# Altium footprint library prosthesis.PcbLib: 35 footprints (part 2 of 3)
Each footprint in its own frame and in the unit in brackets; x right, y up, seen from the top. Pads: shape width x height; smd on the part's side, far side on the other; paste and mask are expansions set on the pad; w line width, h text height; cw(c..) or ccw(c..) is an arc to the next point about the centre after c.
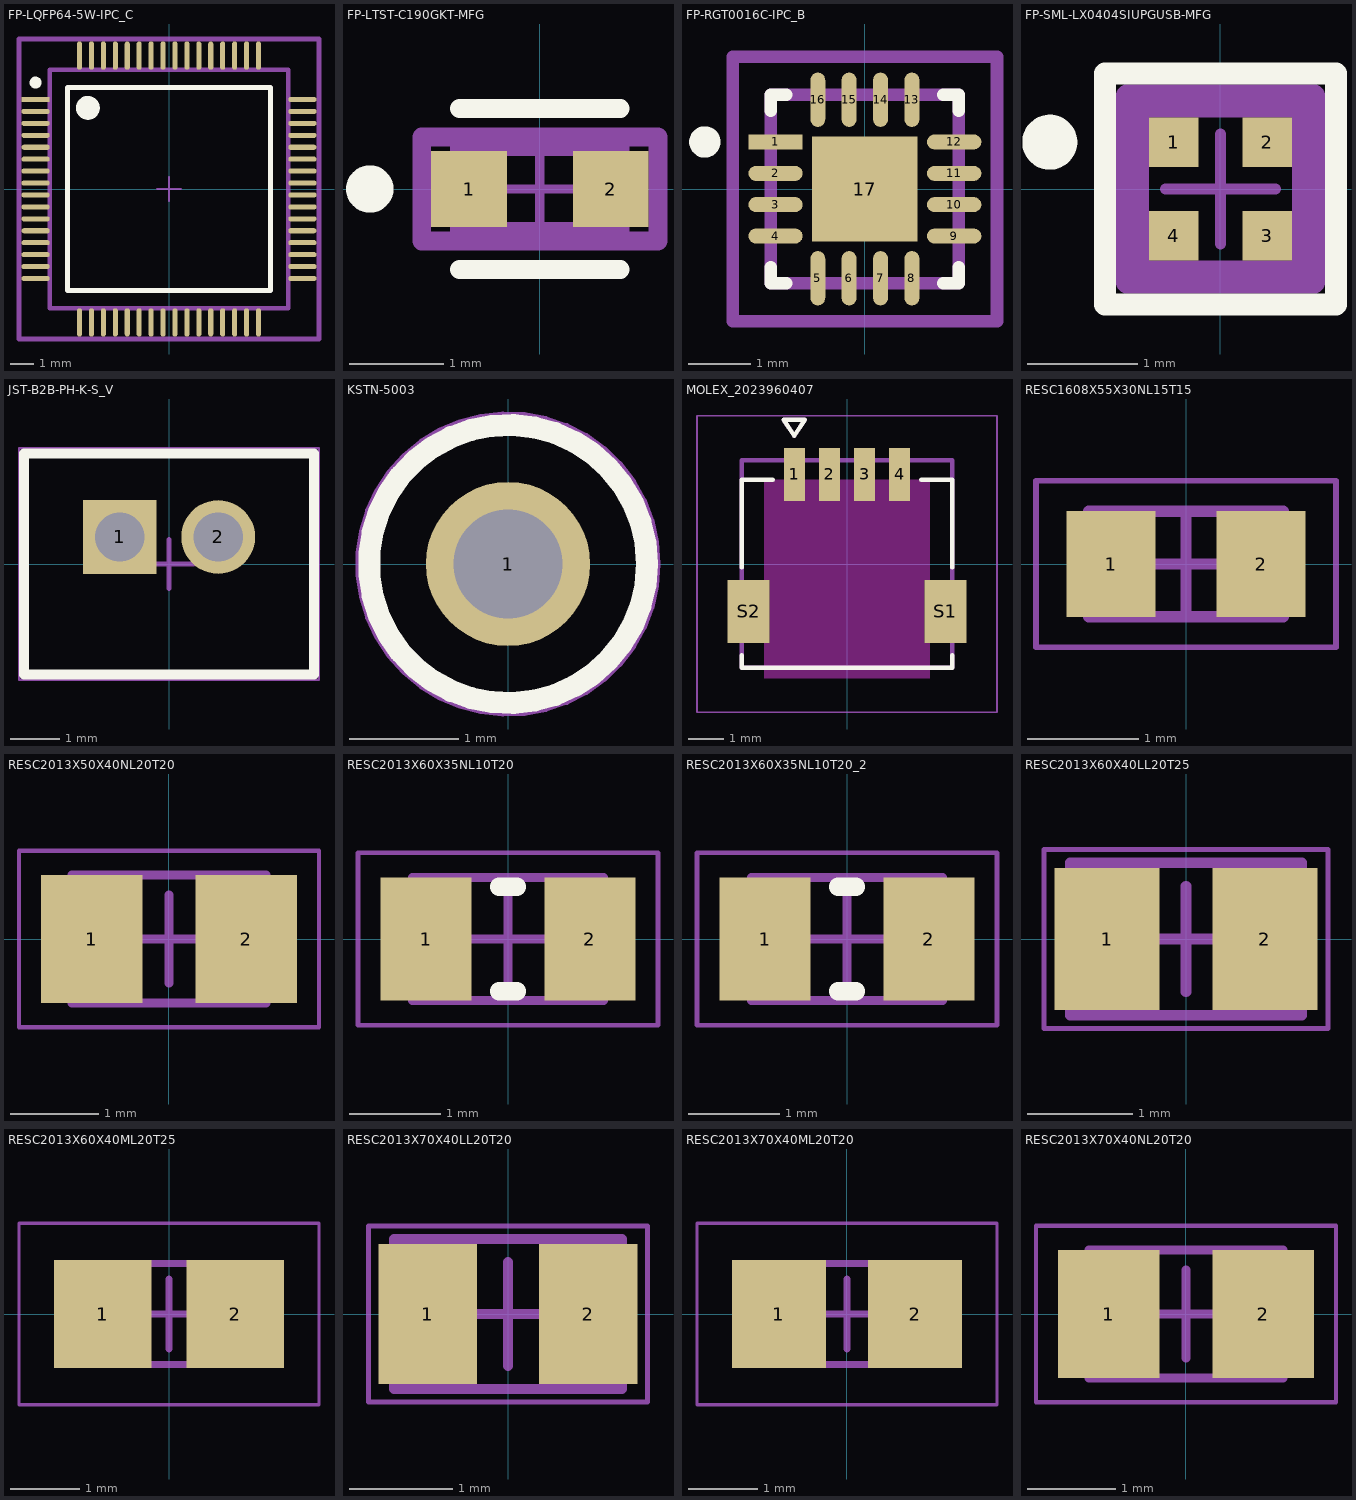
[diagram p1: the footprints below, top view; thin cyan lines are the x and y axes]

## FP-LQFP64-5W-IPC_C [mm]
pads (64):
  rect 1.188x0.212 smd paste+0 mask+0: 1(-5.591,3.75)
  rrect100% 1.188x0.212 smd paste+0 mask+0: 2(-5.591,3.25) 3(-5.591,2.75) 4(-5.591,2.25) 5(-5.591,1.75) 6(-5.591,1.25) 7(-5.591,0.75) 8(-5.591,0.25) 9(-5.591,-0.25) 10(-5.591,-0.75) 11(-5.591,-1.25) 12(-5.591,-1.75) 13(-5.591,-2.25) 14(-5.591,-2.75) 15(-5.591,-3.25) 16(-5.591,-3.75) 33(5.591,-3.75) 34(5.591,-3.25) 35(5.591,-2.75) 36(5.591,-2.25) 37(5.591,-1.75) 38(5.591,-1.25) 39(5.591,-0.75) 40(5.591,-0.25) 41(5.591,0.25) 42(5.591,0.75) 43(5.591,1.25) 44(5.591,1.75) 45(5.591,2.25) 46(5.591,2.75) 47(5.591,3.25) 48(5.591,3.75)
  rrect100% 0.212x1.188 smd paste+0 mask+0: 17(-3.75,-5.591) 18(-3.25,-5.591) 19(-2.75,-5.591) 20(-2.25,-5.591) 21(-1.75,-5.591) 22(-1.25,-5.591) 23(-0.75,-5.591) 24(-0.25,-5.591) 25(0.25,-5.591) 26(0.75,-5.591) 27(1.25,-5.591) 28(1.75,-5.591) 29(2.25,-5.591) 30(2.75,-5.591) 31(3.25,-5.591) 32(3.75,-5.591) 49(3.75,5.591) 50(3.25,5.591) 51(2.75,5.591) 52(2.25,5.591) 53(1.75,5.591) 54(1.25,5.591) 55(0.75,5.591) 56(0.25,5.591) 57(-0.25,5.591) 58(-0.75,5.591) 59(-1.25,5.591) 60(-1.75,5.591) 61(-2.25,5.591) 62(-2.75,5.591) 63(-3.25,5.591) 64(-3.75,5.591)
Top Overlay:
  circle w0.25: c-5.591,4.46 r0.125
  circle w0.5: c-3.4,3.4 r0.25
  lines w0.2: -4.25,-4.25 4.25,-4.25 4.25,4.25 -4.25,4.25 -4.25,-4.25
Top 3D Body:
  lines w0.2: -5,-5 5,-5 5,5 -5,5 -5,-5
Top Component Center:
  lines w0.1: -0.5,0 0.5,0 ; 0,-0.5 0,0.5
Top Assembly:
  lines w0.2: -6.285,-6.285 6.285,-6.285 6.285,6.285 -6.285,6.285 -6.285,-6.285
  text ".Designator" at 0,-0.001 h1
Top Courtyard:
  lines w0.2: -6.285,-6.285 6.285,-6.285 6.285,6.285 -6.285,6.285 -6.285,-6.285
3D body "IC_STMicroelectronics_STM32L431RCT6_eec.STEP": height 1.6, standoff 0, extent -5.999,-6.001 6.001,5.999

## FP-LTST-C190GKT-MFG [mm]
pads (2):
  rect 0.8x0.8 smd paste+0 mask+0: 1(-0.75,0) 2(0.75,0)
Top Overlay:
  circle w0.25: c-1.8,0 r0.125
  lines w0.2: -0.85,-0.85 0.85,-0.85 ; -0.85,0.85 0.85,0.85
Top 3D Body:
  lines w0.2: -0.85,-0.45 -0.85,0.45 0.85,0.45 0.85,-0.45 -0.85,-0.45
Top Component Center:
  lines w0.1: -0.5,0 0.5,0 ; 0,-0.5 0,0.5
Top Assembly:
  lines w0.2: -1.25,-0.55 -1.25,0.55 1.25,0.55 1.25,-0.55 -1.25,-0.55
  text ".Designator" at 0,-0.001 h1
Top Courtyard:
  lines w0.2: -1.25,-0.55 -1.25,0.55 1.25,0.55 1.25,-0.55 -1.25,-0.55
3D body "Diode_Lite-On_LTST-C190GKT_eec.STEP": height 0.25, standoff 0, extent -1.25,-0.55 1.25,0.55

## FP-RGT0016C-IPC_B [mm]
pads (17):
  rect 0.866x0.239 smd paste+0 mask+0: 1(-1.423,0.75)
  rrect100% 0.866x0.239 smd paste+0 mask+0: 2(-1.423,0.25) 3(-1.423,-0.25) 4(-1.423,-0.75) 9(1.423,-0.75) 10(1.423,-0.25) 11(1.423,0.25) 12(1.423,0.75)
  rrect100% 0.239x0.866 smd paste+0 mask+0: 5(-0.75,-1.423) 6(-0.25,-1.423) 7(0.25,-1.423) 8(0.75,-1.423) 13(0.75,1.423) 14(0.25,1.423) 15(-0.25,1.423) 16(-0.75,1.423)
  rect 1.68x1.68 smd paste-1000 mask+0: 17(0,0)
Top Overlay:
  circle w0.25: c-2.55,0.75 r0.125
  lines w0.2: -1.5,-1.25 -1.5,-1.5 -1.25,-1.5 ; -1.5,1.25 -1.5,1.5 -1.25,1.5 ; 1.25,-1.5 1.5,-1.5 1.5,-1.25 ; 1.25,1.5 1.5,1.5 1.5,1.25
Top Paste:
  rectangle: -0.531,-0.531 0.531,0.531
Top 3D Body:
  lines w0.2: -1.5,-1.5 -1.5,1.5 1.5,1.5 1.5,-1.5 -1.5,-1.5
Top Component Center:
  lines w0.1: -0.5,0 0.5,0 ; 0,-0.5 0,0.5
Top Assembly:
  lines w0.2: -2.106,-2.106 -2.106,2.106 2.106,2.106 2.106,-2.106 -2.106,-2.106
  text ".Designator" at 0,0.188 h1
Top Courtyard:
  lines w0.2: -2.106,-2.106 -2.106,2.106 2.106,2.106 2.106,-2.106 -2.106,-2.106
3D body "IC_Texas_Instruments_DRV8876RGTR_eec.STEP": height 0.25, standoff 0, extent -2.106,-2.106 2.106,2.106

## FP-SML-LX0404SIUPGUSB-MFG [mm]
pads (4):
  rect 0.45x0.45 smd paste+0 mask+0: 1(-0.425,0.425) 2(0.425,0.425) 3(0.425,-0.425) 4(-0.425,-0.425)
Top Overlay:
  circle w0.25: c-1.55,0.425 r0.125
  lines w0.2: -1.05,-1.05 1.05,-1.05 1.05,1.05 -1.05,1.05 -1.05,-1.05
Top 3D Body:
  lines w0.2: -0.75,-0.75 0.75,-0.75 0.75,0.75 -0.75,0.75 -0.75,-0.75
Top Component Center:
  lines w0.1: -0.5,0 0.5,0 ; 0,-0.5 0,0.5
Top Assembly:
  lines w0.2: -0.85,-0.85 0.85,-0.85 0.85,0.85 -0.85,0.85 -0.85,-0.85
  text ".Designator" at 0,0.188 h1
Top Courtyard:
  lines w0.2: -0.85,-0.85 0.85,-0.85 0.85,0.85 -0.85,0.85 -0.85,-0.85
3D body "Diode_Lumex_SML-LX0404SIUPGUSB_eec.STEP": height 0.25, standoff 0, extent -0.85,-0.85 0.85,0.85

## JST-B2B-PH-K-S_V [mm]
pads (2):
  rect 1.5x1.5 hole 1: 1(-1,0.55)
  round 1.5 hole 1: 2(1,0.55)
Top Overlay:
  lines w0.2: -2.95,-2.25 2.95,-2.25 2.95,2.25 -2.95,2.25 -2.95,-2.25
Top Assembly:
  lines w0.1: -2.95,-2.25 -2.95,2.25 2.95,2.25 2.95,-2.25 -2.95,-2.25
Top Courtyard:
  lines w0.05: -3.05,-2.35 -3.05,2.35 3.05,2.35 3.05,-2.35 -3.05,-2.35
  lines w0.1: -0.5,0 0.5,0 ; 0,-0.5 0,0.5
3D body: height 6, standoff 0, extent -2.949,-2.249 2.949,2.249
3D body: height 0, standoff -3.4, extent -1.249,0.301 -0.751,0.799
3D body: height 0, standoff -3.4, extent 0.75,0.301 1.249,0.8

## KSTN-5003 [mm]
pads (1):
  round 1.5 hole 1: 1(0,0)
Top Overlay:
  circle w0.2: c0,0 r1.27
Top Assembly:
  circle w0.1: c0,0 r1.27
Top Courtyard:
  circle w0.05: c0,0 r1.37
  lines w0.1: -0.5,0 0.5,0 ; 0,-0.5 0,0.5
3D body "User Library-Test Point Keystone - 5003 ORANGE.STEP": height 4.57, standoff -3.05, extent -1.27,-1.27 1.27,1.27

## MOLEX_2023960407 [mm]
pads (6):
  rect 0.6x1.5 smd mask+0.076: 1(-1.5,2.55) 2(-0.5,2.55) 3(0.5,2.55) 4(1.5,2.55)
  rect 1.2x1.8 smd mask+0.076: S1(2.8,-1.35) S2(-2.8,-1.35)
Top Overlay:
  lines w0.127: -3,-2.6 -3,-2.95 3,-2.95 3,-2.6 ; -3,-0.1 -3,2.4 -2.12,2.4 ; 2.12,2.4 3,2.4 3,-0.1 ; -1.8,4.1 -1.2,4.1 -1.5,3.65 -1.8,4.1
Keep-Out Layer:
  region: 2.35,-0.445 2.195,-0.445 2.195,-2.255 2.35,-2.255 2.35,-3.25 -2.35,-3.25 -2.35,-2.255 -2.195,-2.255 -2.195,-0.445 -2.35,-0.445 -2.35,2.4 -1.805,2.4 -1.805,1.795 -1.195,1.795 -1.195,2.4 -0.805,2.4 -0.805,1.795 -0.195,1.795 -0.195,2.4 0.195,2.4 0.195,1.795 0.805,1.795 0.805,2.4 1.195,2.4 1.195,1.795 1.805,1.795 1.805,2.4 2.35,2.4
Top Assembly:
  lines w0.127: -3,-2.95 3,-2.95 3,2.95 -3,2.95 -3,-2.95 ; -1.8,4.1 -1.2,4.1 -1.5,3.65 -1.8,4.1
Top Courtyard:
  lines w0.05: -4.27,-4.22 -4.27,4.22 4.27,4.22 4.27,-4.22 -4.27,-4.22

## RESC1608X55X30NL15T15 [mm]
pads (2):
  rect 0.8x0.95 smd: 1(-0.675,0) 2(0.675,0)
Top Assembly:
  lines w0.1: -0.875,-0.475 -0.875,0.475 0.875,0.475 0.875,-0.475 -0.875,-0.475
Top Courtyard:
  lines w0.05: -1.35,-0.75 -1.35,0.75 1.35,0.75 1.35,-0.75 -1.35,-0.75
  lines w0.1: -0.475,0 0.475,0 ; 0,-0.475 0,0.475
3D body: height 0.55, standoff 0, extent -0.575,-0.475 0.575,0.475
3D body: height 0.55, standoff 0, extent -0.875,-0.475 -0.575,0.475
3D body: height 0.55, standoff 0, extent 0.575,-0.475 0.875,0.475

## RESC2013X50X40NL20T20 [mm]
pads (2):
  rect 1.15x1.45 smd: 1(-0.875,0) 2(0.875,0)
Top Assembly:
  lines w0.1: -1.1,-0.725 -1.1,0.725 1.1,0.725 1.1,-0.725 -1.1,-0.725
Top Courtyard:
  lines w0.05: -1.7,-1 -1.7,1 1.7,1 1.7,-1 -1.7,-1
  lines w0.1: -0.5,0 0.5,0 ; 0,-0.5 0,0.5
3D body: height 0.5, standoff 0, extent -0.7,-0.725 0.7,0.725
3D body: height 0.5, standoff 0, extent -1.1,-0.725 -0.7,0.725
3D body: height 0.5, standoff 0, extent 0.7,-0.725 1.1,0.725

## RESC2013X60X35NL10T20 [mm]
pads (2):
  rect 1x1.35 smd: 1(-0.9,0) 2(0.9,0)
Top Overlay:
  lines w0.2: -0.1,-0.575 0.1,-0.575 ; -0.1,0.575 0.1,0.575
Top Assembly:
  lines w0.1: -1.05,-0.675 -1.05,0.675 1.05,0.675 1.05,-0.675 -1.05,-0.675
Top Courtyard:
  lines w0.05: -1.65,-0.95 -1.65,0.95 1.65,0.95 1.65,-0.95 -1.65,-0.95
  lines w0.1: -0.5,0 0.5,0 ; 0,-0.5 0,0.5
3D body "RESC2012X06N.step": height 0.6, standoff 0, extent -1.05,-0.675 1.05,0.675

## RESC2013X60X35NL10T20_2 [mm]
pads (2):
  rect 1x1.35 smd: 1(-0.9,0) 2(0.9,0)
Top Overlay:
  lines w0.2: -0.1,-0.575 0.1,-0.575 ; -0.1,0.575 0.1,0.575
Top Assembly:
  lines w0.1: -1.05,-0.675 -1.05,0.675 1.05,0.675 1.05,-0.675 -1.05,-0.675
Top Courtyard:
  lines w0.05: -1.65,-0.95 -1.65,0.95 1.65,0.95 1.65,-0.95 -1.65,-0.95
  lines w0.1: -0.5,0 0.5,0 ; 0,-0.5 0,0.5
3D body: height 0.6, standoff 0, extent -0.7,-0.675 0.7,0.675
3D body: height 0.6, standoff 0, extent -1.05,-0.675 -0.7,0.675
3D body: height 0.6, standoff 0, extent 0.7,-0.675 1.05,0.675

## RESC2013X60X40LL20T25 [mm]
pads (2):
  rect 1x1.35 smd: 1(-0.75,0) 2(0.75,0)
Top Assembly:
  lines w0.1: -1.1,-0.725 -1.1,0.725 1.1,0.725 1.1,-0.725 -1.1,-0.725
Top Courtyard:
  lines w0.05: -1.35,-0.85 -1.35,0.85 1.35,0.85 1.35,-0.85 -1.35,-0.85
  lines w0.1: -0.5,0 0.5,0 ; 0,-0.5 0,0.5
3D body: height 0.6, standoff 0, extent -0.7,-0.725 0.7,0.725
3D body: height 0.6, standoff 0, extent -1.1,-0.725 -0.7,0.725
3D body: height 0.6, standoff 0, extent 0.7,-0.725 1.1,0.725

## RESC2013X60X40ML20T25 [mm]
pads (2):
  rect 1.4x1.55 smd: 1(-0.95,0) 2(0.95,0)
Top Assembly:
  lines w0.1: -1.1,-0.725 1.1,-0.725 1.1,0.725 -1.1,0.725 -1.1,-0.725
Top Courtyard:
  lines w0.05: -2.15,-1.3 2.15,-1.3 2.15,1.3 -2.15,1.3 -2.15,-1.3
  lines w0.1: -0.5,0 0.5,0 ; 0,-0.5 0,0.5
3D body: height 0.6, standoff 0, extent 0.7,-0.725 1.1,0.725
3D body: height 0.6, standoff 0, extent -1.1,-0.725 -0.7,0.725
3D body: height 0.6, standoff 0, extent -0.7,-0.725 0.7,0.725

## RESC2013X70X40LL20T20 [mm]
pads (2):
  rect 0.95x1.35 smd: 1(-0.775,0) 2(0.775,0)
Top Assembly:
  lines w0.1: -1.1,-0.725 -1.1,0.725 1.1,0.725 1.1,-0.725 -1.1,-0.725
Top Courtyard:
  lines w0.05: -1.35,-0.85 -1.35,0.85 1.35,0.85 1.35,-0.85 -1.35,-0.85
  lines w0.1: -0.5,0 0.5,0 ; 0,-0.5 0,0.5
3D body: height 0.7, standoff 0, extent -0.7,-0.725 0.7,0.725
3D body: height 0.7, standoff 0, extent -1.1,-0.725 -0.7,0.725
3D body: height 0.7, standoff 0, extent 0.7,-0.725 1.1,0.725

## RESC2013X70X40ML20T20 [mm]
pads (2):
  rect 1.35x1.55 smd: 1(-0.975,0) 2(0.975,0)
Top Assembly:
  lines w0.1: -1.1,-0.725 -1.1,0.725 1.1,0.725 1.1,-0.725 -1.1,-0.725
Top Courtyard:
  lines w0.05: -2.15,-1.3 -2.15,1.3 2.15,1.3 2.15,-1.3 -2.15,-1.3
  lines w0.1: -0.5,0 0.5,0 ; 0,-0.5 0,0.5
3D body: height 0.7, standoff 0, extent -0.7,-0.725 0.7,0.725
3D body: height 0.7, standoff 0, extent -1.1,-0.725 -0.7,0.725
3D body: height 0.7, standoff 0, extent 0.7,-0.725 1.1,0.725

## RESC2013X70X40NL20T20 [mm]
pads (2):
  rect 1.15x1.45 smd: 1(-0.875,0) 2(0.875,0)
Top Assembly:
  lines w0.1: -1.1,-0.725 -1.1,0.725 1.1,0.725 1.1,-0.725 -1.1,-0.725
Top Courtyard:
  lines w0.05: -1.7,-1 -1.7,1 1.7,1 1.7,-1 -1.7,-1
  lines w0.1: -0.5,0 0.5,0 ; 0,-0.5 0,0.5
3D body: height 0.7, standoff 0, extent -0.7,-0.725 0.7,0.725
3D body: height 0.7, standoff 0, extent -1.1,-0.725 -0.7,0.725
3D body: height 0.7, standoff 0, extent 0.7,-0.725 1.1,0.725